# Altium footprint library PINPAD.PCBLIB: 151 footprints (part 6 of 10)
Each footprint in its own frame and in the unit in brackets; x right, y up, seen from the top. Pads: shape width x height; smd on the part's side, far side on the other; paste and mask are expansions set on the pad; w line width, h text height; cw(c..) or ccw(c..) is an arc to the next point about the centre after c.
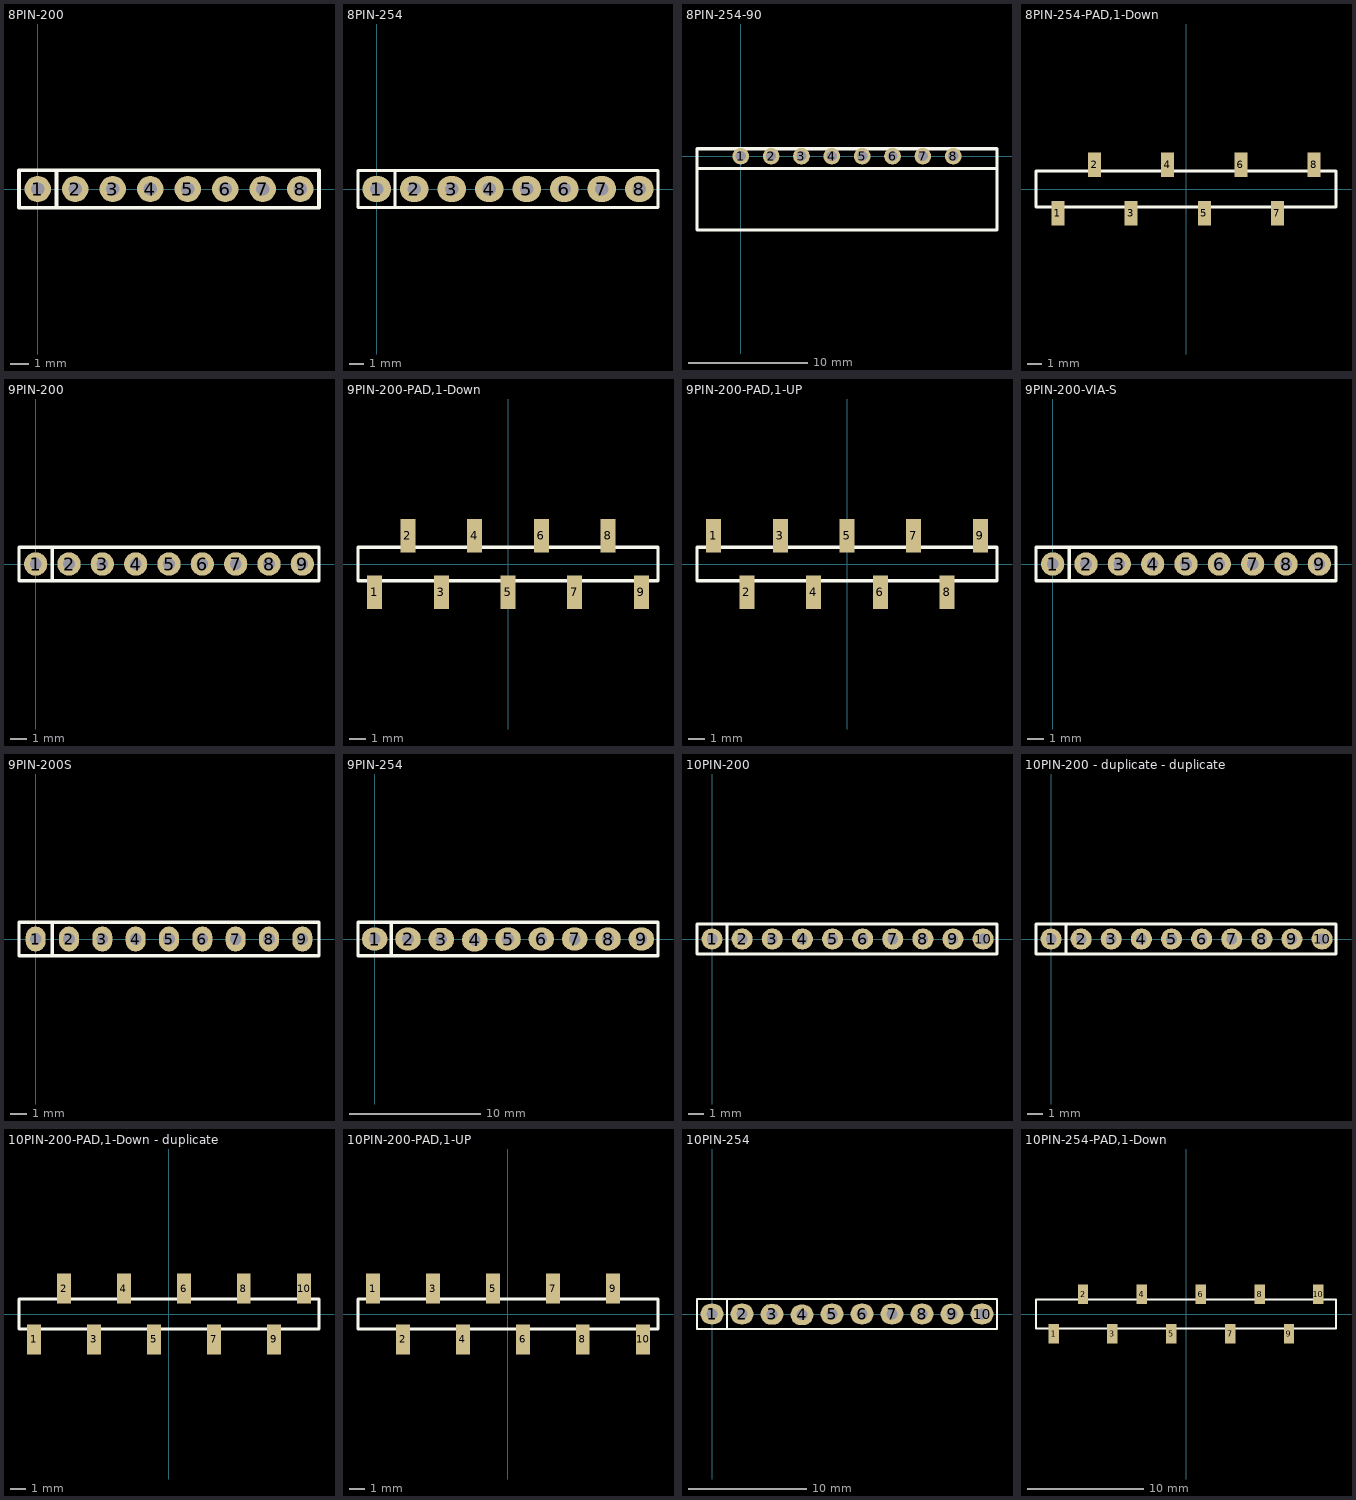
[diagram p5: the footprints below, top view; thin cyan lines are the x and y axes]

## 8PIN-200 [mm]
pads (8):
  round 1.4 hole 0.7: 1(0,0) 2(2,0) 3(4,0) 4(6,0) 5(8,0) 6(10,0) 7(12,0) 8(14,0)
TopOverlay:
  lines w0.2: 1,-1 1,0.975 ; -1,-1 -1,1 15,1 15,-1 -1,-1

## 8PIN-254 [mm]
pads (8):
  oval 1.95x1.75 hole 0.9: 1(0,0) 2(2.54,0) 3(5.08,0) 4(7.62,0) 5(10.16,0) 6(12.7,0) 7(15.24,0) 8(17.78,0)
TopOverlay:
  lines w0.2: 1.25,-1.2 1.25,1.25 ; -1.27,-1.25 -1.27,1.25 19.05,1.25 19.05,-1.25 -1.27,-1.25

## 8PIN-254-90 [mm]
pads (8):
  round 1.4 hole 0.85: 1(0,0) 2(2.54,0) 3(5.08,0) 4(7.62,0) 5(10.16,0) 6(12.7,0) 7(15.24,0) 8(17.78,0)
TopOverlay:
  lines w0.254: -3.665,-1.05 21.445,-1.05 ; -3.665,-6.2 21.445,-6.2 21.445,0.62 -3.665,0.62 -3.665,-6.2

## 8PIN-254-PAD,1-Down [mm] "8PIN-254-PAD,1-Down"
pads (8):
  rect 0.9x1.7 smd: 1(-8.89,-1.7) 2(-6.35,1.7) 3(-3.81,-1.7) 4(-1.27,1.7) 5(1.27,-1.7) 6(3.81,1.7) 7(6.35,-1.7) 8(8.89,1.7)
TopOverlay:
  lines w0.2: -10.41,-1.25 10.41,-1.25 10.41,1.25 -10.41,1.25 -10.41,-1.25

## 9PIN-200 [mm]
pads (9):
  round 1.4 hole 0.7: 1(0,0) 2(2,0) 3(4,0) 4(6,0) 5(8,0) 6(10,0) 7(12,0) 8(14,0) 9(16,0)
TopOverlay:
  lines w0.2: 1,-1 1,0.975 ; -1,-1 17,-1 17,1 -1,1 -1,-1

## 9PIN-200-PAD,1-Down [mm] "9PIN-200-PAD,1-Down"
pads (9):
  rect 0.9x2 smd: 1(-8,-1.7) 2(-6,1.7) 3(-4,-1.7) 4(-2,1.7) 5(0,-1.7) 6(2,1.7) 7(4,-1.7) 8(6,1.7) 9(8,-1.7)
TopOverlay:
  lines w0.2: -9,-1 -9,1 9,1 9,-1 -9,-1

## 9PIN-200-PAD,1-UP [mm] "9PIN-200-PAD,1-UP"
pads (9):
  rect 0.9x2 smd: 1(-8,1.7) 2(-6,-1.7) 3(-4,1.7) 4(-2,-1.7) 5(0,1.7) 6(2,-1.7) 7(4,1.7) 8(6,-1.7) 9(8,1.7)
TopOverlay:
  lines w0.2: -9,-1 9,-1 9,1 -9,1 -9,-1

## 9PIN-200-VIA-S [mm]
pads (9):
  round 1.4 hole 0.7: 1(0,0) 2(2,0) 3(4,0) 4(6,0) 5(8,0) 6(10,0) 7(12,0) 8(14,0) 9(16,0)
TopOverlay:
  lines w0.2: 1,-1 1,0.975 ; -1,-1 -1,1 17,1 17,-1 -1,-1

## 9PIN-200S [mm]
pads (9):
  oval 1.2x1.5 hole 0.7: 1(0,0) 2(2,0) 3(4,0) 4(6,0) 5(8,0) 6(10,0) 7(12,0) 8(14,0) 9(16,0)
TopOverlay:
  lines w0.2: 1,-1 1,0.975 ; -1,-1 -1,1 17,1 17,-1 -1,-1

## 9PIN-254 [mm]
pads (9):
  oval 1.95x1.75 hole 0.9: 1(0,0) 2(2.54,0) 3(5.08,-0.025) 4(7.62,-0.075) 5(10.16,0) 6(12.7,0) 7(15.24,0) 8(17.78,0) 9(20.32,0)
TopOverlay:
  lines w0.254: 1.27,-1.27 1.27,1.27 ; -1.27,-1.27 -1.27,1.27 21.59,1.27 21.59,-1.27 -1.27,-1.27

## 10PIN-200 [mm]
pads (10):
  round 1.4 hole 0.7: 1(0,0) 2(2,0) 3(4,0) 4(6,0) 5(8,0) 6(10,0) 7(12,0) 8(14,0) 9(16,0) 10(18,0)
TopOverlay:
  lines w0.2: 1,-1 1,0.975 ; -1,-1 -1,1 18.925,1 18.925,-1 -1,-1

## 10PIN-200 - duplicate - duplicate [mm]
pads (10):
  round 1.4 hole 0.7: 1(0,0) 2(2,0) 3(4,0) 4(6,0) 5(8,0) 6(10,0) 7(12,0) 8(14,0) 9(16,0) 10(18,0)
TopOverlay:
  lines w0.2: 1,-1 1,0.975 ; -1,-1 -1,1 18.925,1 18.925,-1 -1,-1

## 10PIN-200-PAD,1-Down - duplicate [mm] "10PIN-200-PAD,1-Down"
pads (10):
  rect 0.9x2 smd: 1(-9,-1.7) 2(-7,1.7) 3(-5,-1.7) 4(-3,1.7) 5(-1,-1.7) 6(1,1.7) 7(3,-1.7) 8(4.975,1.7) 9(7,-1.7) 10(9,1.7)
TopOverlay:
  lines w0.2: -10,-1 -10,1 10,1 10,-1 -10,-1

## 10PIN-200-PAD,1-UP [mm] "10PIN-200-PAD,1-UP"
pads (10):
  rect 0.9x2 smd: 1(-9,1.7) 2(-7,-1.7) 3(-5,1.7) 4(-3,-1.7) 5(-1,1.7) 6(1,-1.7) 7(3,1.7) 8(4.975,-1.7) 9(7,1.7) 10(9,-1.7)
TopOverlay:
  lines w0.2: -10,-1 -10,1 10,1 10,-1 -10,-1

## 10PIN-254 [mm]
pads (10):
  oval 1.95x1.75 hole 0.9: 1(0,0) 2(2.54,0) 3(5.08,-0.025) 4(7.62,-0.075) 5(10.16,0) 6(12.7,0) 7(15.24,0) 8(17.78,0) 9(20.32,0) 10(22.86,0)
TopOverlay:
  lines w0.2: 1.27,-1.27 1.27,1.27 ; 24.13,1.23 24.13,-1.27 -1.27,-1.27 -1.27,1.27 24.13,1.27

## 10PIN-254-PAD,1-Down [mm] "10PIN-254-PAD,1-Down"
pads (10):
  rect 0.9x1.7 smd: 1(-11.43,-1.7) 2(-8.89,1.7) 3(-6.35,-1.7) 4(-3.81,1.7) 5(-1.27,-1.7) 6(1.27,1.7) 7(3.81,-1.7) 8(6.35,1.7) 9(8.89,-1.7) 10(11.43,1.7)
TopOverlay:
  lines w0.2: 12.95,-1.25 12.95,1.25 ; 12.95,-1.25 -12.95,-1.25 -12.95,1.25 12.95,1.25 ; 12.95,-1.25 12.95,1.25